# Altium footprint library AXIAL_0.4.PcbLib: 1 footprints
Each footprint in its own frame and in the unit in brackets; x right, y up, seen from the top. Pads: shape width x height; smd on the part's side, far side on the other; paste and mask are expansions set on the pad; w line width, h text height; cw(c..) or ccw(c..) is an arc to the next point about the centre after c.
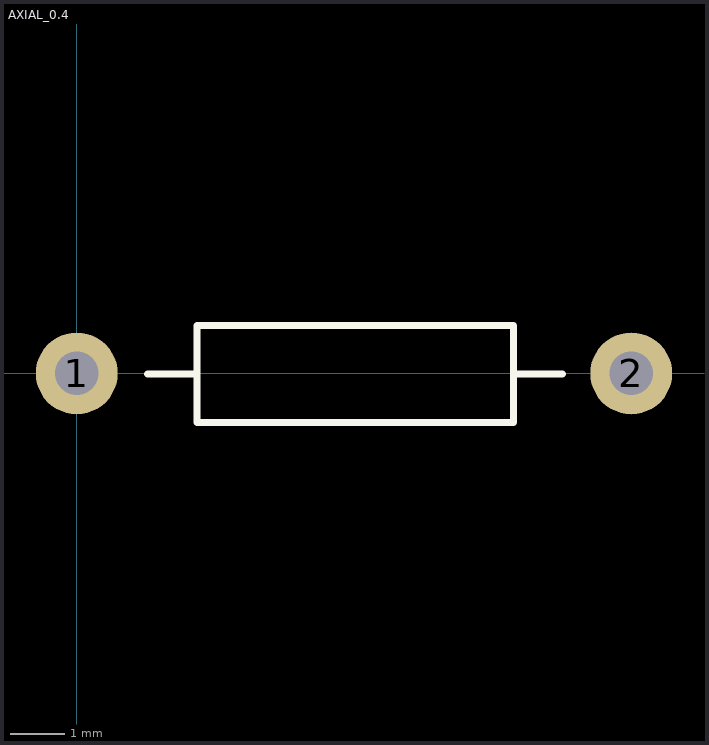
[diagram p0: the footprint, top view; thin cyan lines are the x and y axes]

## AXIAL_0.4 [mm] "Axial device, 0.4\" spacing"
pads (2):
  round 1.5 hole 0.8: 1(0,0) 2(10.16,0)
Top Overlay:
  lines w0.127: 1.3,-0.011 2.2,-0.011 ; 8,-0.011 8.9,-0.011 ; 2.2,-0.9 8,-0.9 8,0.878 2.2,0.878 2.2,-0.9
3D body "Resistor.SLDPRT": height 2.4, standoff -1.75, extent -0.254,-1.15 10.455,1.144